# Altium schematic symbol library ECS-80-18-5PX-TR.SchLib: 1 symbol
Pins are listed as number, name and electrical type; pins without a type are passive.

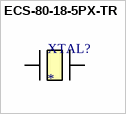
[diagram p0: symbol ECS-80-18-5PX-TR]

## ECS-80-18-5PX-TR
designator XTAL?
footprint ESC-80-18-5PX-TR
pins: 1 4, 2